# Altium schematic symbol library TLV9002QDRQ1.SchLib: 1 symbol
Pins are listed as number, name and electrical type; pins without a type are passive.

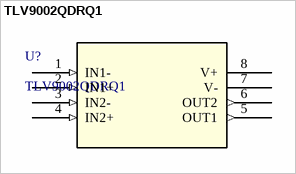
[diagram p0: symbol TLV9002QDRQ1]

## TLV9002QDRQ1
designator U?
Automotive-grade, dual, 5.5-V, 1-MHz, RRIO operational amplifier for cost-optimized applications 8-SOIC -40 to 125; Manufacturer_Name: Texas Instruments; Type: Linear; Copyright: Copyright (C) 2026 Ultra Librarian. All rights reserved.; Manufacturer_Part_Number: TLV9002QDRQ1; RefDes: RefDes
footprint SOIC8_D_TEX
pins: 1 IN1- (in), 2 IN1+ (in), 3 IN2- (in), 4 IN2+ (in), 5 OUT1 (out), 6 OUT2 (out), 7 V-, 8 V+ (power)